# Altium footprint library TSW-115-07-F-D.PcbLib: 1 footprints
Each footprint in its own frame and in the unit in brackets; x right, y up, seen from the top. Pads: shape width x height; smd on the part's side, far side on the other; paste and mask are expansions set on the pad; w line width, h text height; cw(c..) or ccw(c..) is an arc to the next point about the centre after c.
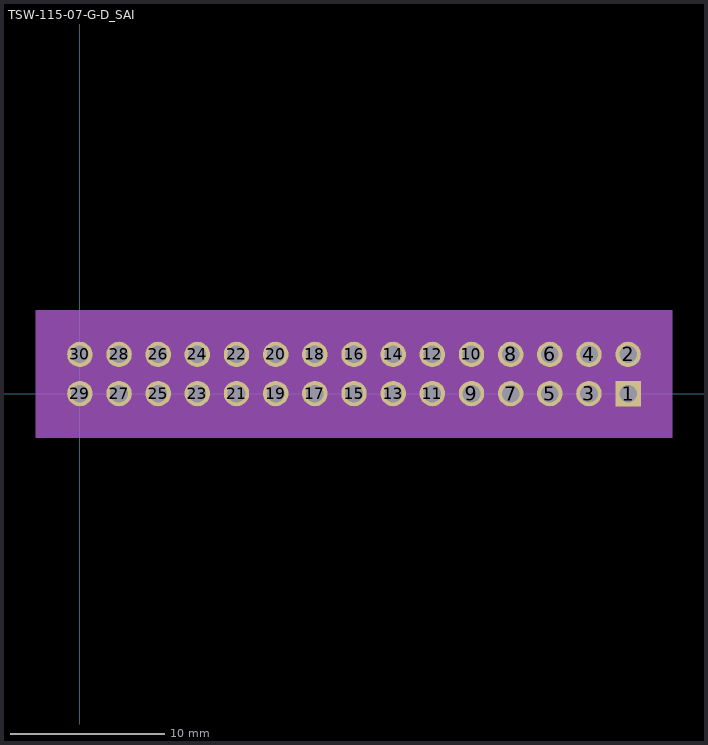
[diagram p0: the footprint, top view; thin cyan lines are the x and y axes]

## TSW-115-07-G-D_SAI [mil]
pads (30):
  rect 65x65 hole 45 mask+0: 1(1400,0)
  round 65 hole 45 mask+0: 2(1400,100) 3(1300,0) 4(1300,100) 5(1200,0) 6(1200,100) 7(1100,0) 8(1100,100) 9(1000,0) 10(1000,100) 11(900,0) 12(900,100) 13(800,0) 14(800,100) 15(700,0) 16(700,100) 17(600,0) 18(600,100) 19(500,0) 20(500,100) 21(400,0) 22(400,100) 23(300,0) 24(300,100) 25(200,0) 26(200,100) 27(100,0) 28(100,100) 29(0,0) 30(0,100)
Bottom Overlay:
  circle w20: c1400,-83 r10
  lines w6: -55,-55 -55,155 1455,155 1455,-55 -55,-55
Mechanical 5:
  region: -112.5,-112.5 1512.5,-112.5 1512.5,212.5 -112.5,212.5
Mechanical 13:
  circle w0: c1400,-35 r10
  lines w1: -50,-50 1450,-50 1450,150 -50,150 -50,-50
Mechanical 15:
  region: -60,160 1460,160 1460,-60 -60,-60
  lines w6: -60,-60 1460,-60 1460,160 -60,160 -60,-60
3D body "TSW-115-07-G-D_SAI.step": height 330, standoff -200, extent -40,-50 1460,150